# Altium schematic symbol library MIC5020YM.SchLib: 1 symbol
Pins are listed as number, name and electrical type; pins without a type are passive.

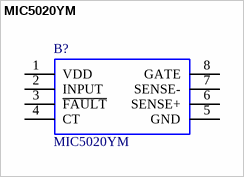
[diagram p0: symbol MIC5020YM]

## MIC5020YM
designator B?
MICROCHIP - MIC5020YM - IC, DRIVER, MOSFET, LOW SIDE; Geometry.Height: 1.879mm; Manufacturer_Name: Microchip; Manufacturer_Part_Number: MIC5020YM; RS Part Number: 9101537P; RS Price/Stock: http://uk.rs-online.com/web/p/products/9101537P; Arrow Part Number: MIC5020YM; Arrow Price/Stock: https://www.arrow.com/en/products/mic5020ym/microchip-technology; Datasheet Link: http://ww1.microchip.com/downloads/en/devicedoc/mic5020.pdf
footprint SOIC127P600X188-8N
pins: 1 VDD (power), 2 INPUT, 3 ~{FAULT}, 4 CT, 5 GND, 6 SENSE+, 7 SENSE-, 8 GATE